# Altium footprint library SG__PCB_Unsorted.PcbLib: 113 footprints (part 3 of 8)
Each footprint in its own frame and in the unit in brackets; x right, y up, seen from the top. Pads: shape width x height; smd on the part's side, far side on the other; paste and mask are expansions set on the pad; w line width, h text height; cw(c..) or ccw(c..) is an arc to the next point about the centre after c.
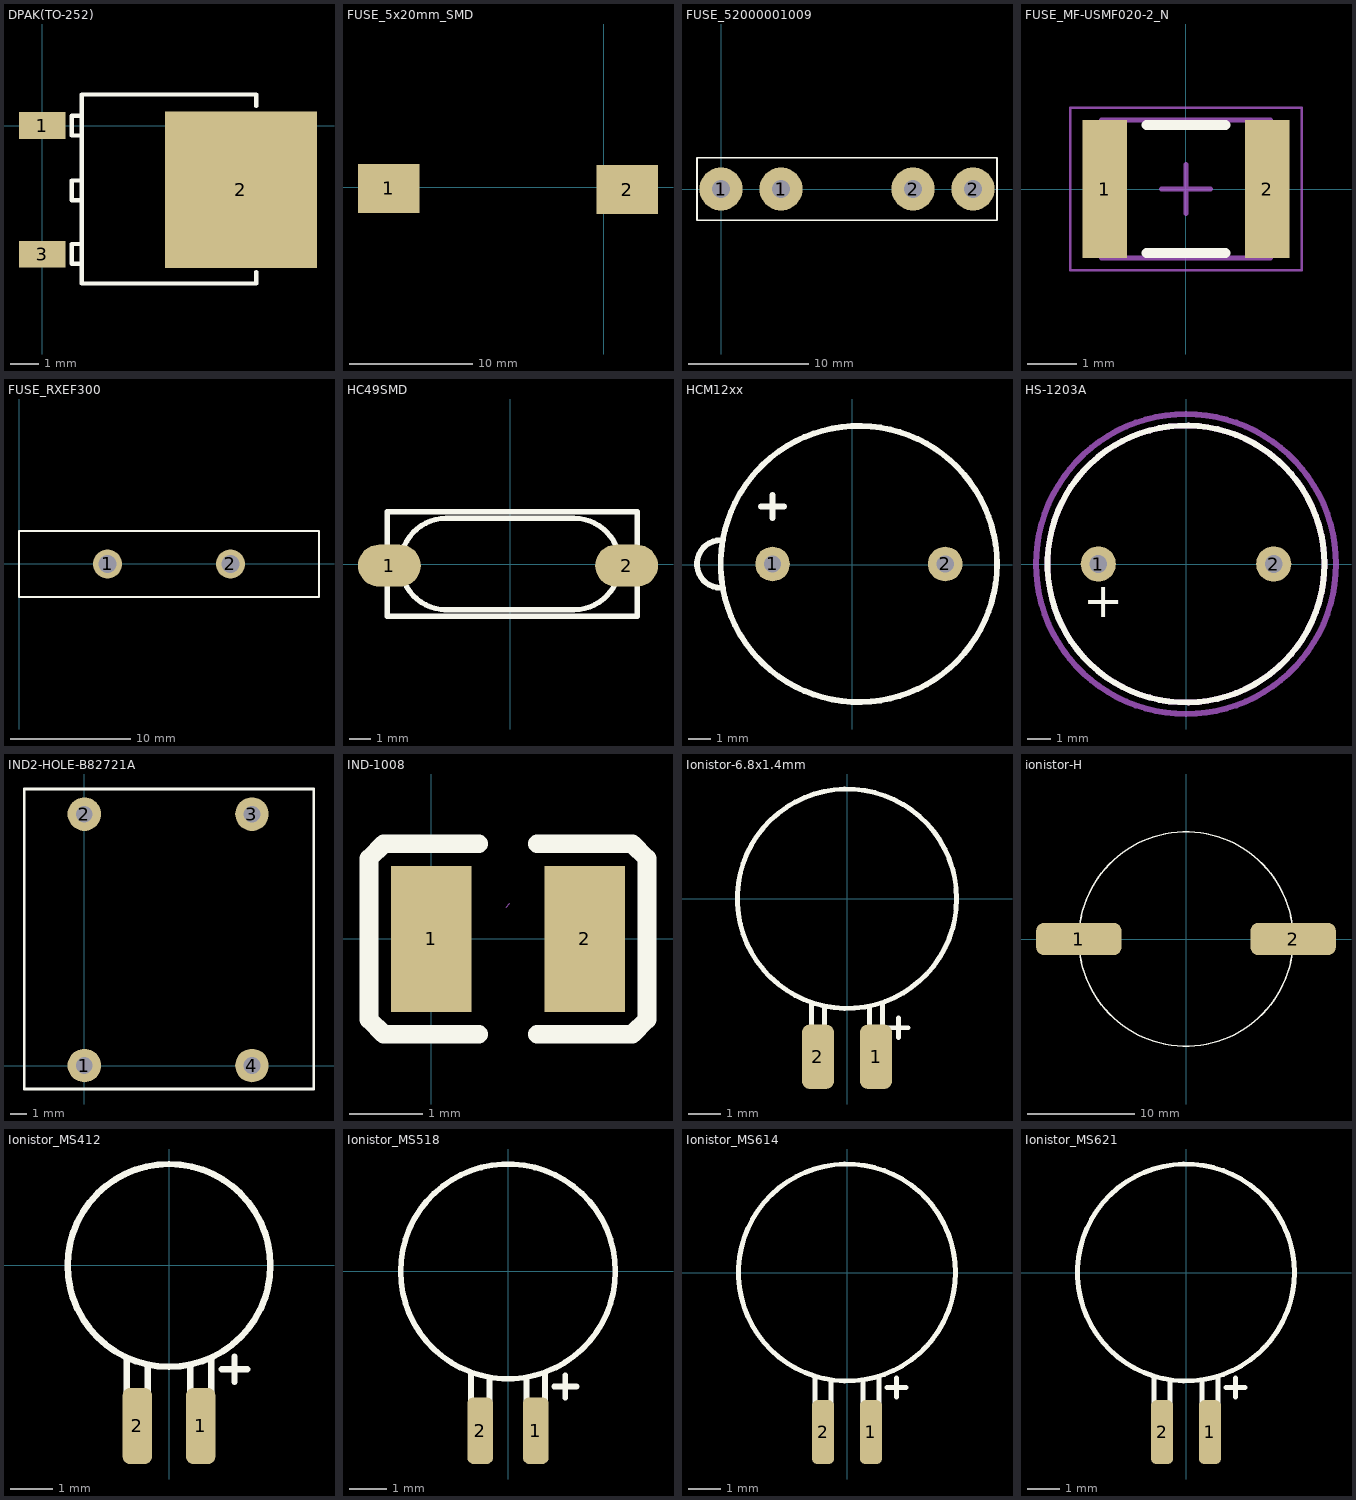
[diagram p2: the footprints below, top view; thin cyan lines are the x and y axes]

## DPAK(TO-252) [mm]
pads (3):
  rect 1.65x0.95 smd mask+0.05: 1(0,0) 3(0,-4.57)
  rect 5.4x5.55 smd mask+0.05: 2(7.05,-2.28)
Top Overlay:
  lines w0.15: 1.4,-4.9 1.05,-4.9 1.05,-4.2 1.4,-4.2 ; 1.4,-2.65 1.05,-2.65 1.05,-1.95 1.4,-1.95 ; 1.4,-0.35 1.05,-0.35 1.05,0.35 1.4,0.35 ; 7.6,-5.2 7.6,-5.6 1.4,-5.6 1.4,1.1 7.6,1.1 7.6,0.7
3D body "to-252.stp": height 2.3, standoff -0.01, extent -0.35,-5.55 9.35,1.03

## FUSE_5x20mm_SMD [mm]
pads (2):
  rect 5x4 smd: 1(-17.5,-0.1) 2(1.9,-0.2)
3D body "fuse_5_20mm.STEP": height 5, standoff 0, extent -17.9,-2.6 2.1,2.4

## FUSE_52000001009 [mm]
pads (4):
  round 3.6 hole 1.5 paste-2539.97 mask-0.05: 1(0,0) 1(5,0) 2(16,0) 2(21,0)
Top Overlay:
  lines w0.152: -2,-2.6 23,-2.6 23,2.6 -2,2.6 -2,-2.6
3D body: height 10, standoff 0, extent -2,-2.6 23,2.6

## FUSE_MF-USMF020-2_N [mm] "Chip Resistor, 2-Leads, Body 3,22x2,58mm, IPC Medium Density"
height 1.1
pads (2):
  rect 0.9x2.8 smd: 1(-1.65,0) 2(1.65,0)
Top Overlay:
  lines w0.2: -0.8,-1.3 0.8,-1.3 ; -0.8,1.3 0.8,1.3
Assembly Top:
  lines w0.1: -1.715,-1.4 1.715,-1.4 1.715,1.4 -1.715,1.4 -1.715,-1.4
Courtyard Top:
  lines w0.05: -2.35,-1.65 2.35,-1.65 2.35,1.65 -2.35,1.65 -2.35,-1.65
  lines w0.1: -0.5,0 0.5,0 ; 0,-0.5 0,0.5
3D body "RESC3226X11N.step": height 1.1, standoff 0, extent -1.715,-1.4 1.715,1.4

## FUSE_RXEF300 [mm]
pads (2):
  round 2.4 hole 1.5 paste-2539.97 mask-0.05: 1(7.35,0) 2(17.55,0)
Top Overlay:
  lines w0.152: 0,-2.751 0,2.749 24.9,2.749 24.9,-2.751 0,-2.751
3D body: height 37.6, standoff 0.5, extent 0,-2.751 24.9,2.749

## HC49SMD [mm]
pads (2):
  oval 3x2 smd: 1(-5.766,-0.076) 2(5.563,-0.076)
Top Overlay:
  lines w0.254: -3.124,-2.185 2.972,-2.185 ; -3.048,-2.185 cw(c-3.048,0) -3.048,2.185 3.048,2.185 cw(c3.048,0) 3.048,-2.185 ; -5.867,-2.489 -5.867,2.489 6.071,2.489 6.071,-2.489 -5.867,-2.489
3D body "User Library-Crystal HC49_US-SM.step": height 4.5, standoff 0.2, extent -6.374,-2.388 6.426,2.442

## HCM12xx [mil]
pads (2):
  round 60 hole 30: 1(-138.78,0.98) 2(161.22,0.98)
Top Overlay:
  circle w10: c11.22,0.98 r240
  lines w10: -228.78,-40.25 cw(c-228.78,0.98) -228.78,42.22 ; -158.78,100.98 -118.78,100.98 ; -138.78,80.98 -138.78,120.98
3D body "HCM1206X.step": height 452.76, standoff -177.17, extent -223.43,-231.31 249.01,241.13

## HS-1203A [mil] "Buzzer"
pads (2):
  round 60 hole 30: 1(-149.61,0) 2(149.61,0)
Top Overlay:
  circle w10: c0,0 r236.22
  text "+" at -175.04,-90.55 h60
Assembly Top:
  circle w10: c0,0 r236.22
Courtyard Top:
  circle w10: c0,0 r255.91
3D body "Buzzer_HS-1203A_7,6mm.SLDPRT": height 377.95, standoff -216.54, extent -236.22,-236.22 236.22,236.22

## IND2-HOLE-B82721A [mm]
pads (4):
  round 2 hole 1 paste-2539.97 mask-0.05: 1(0,0) 2(0,15) 3(10,15) 4(10,0)
Top Overlay:
  lines w0.152: -3.6,-1.4 -3.6,16.5 13.7,16.5 13.7,-1.4 -3.6,-1.4
3D body: height 12.6, standoff 0.5, extent -3.6,-1.4 13.7,16.5

## IND-1008 [mm]
height 1
pads (2):
  rect 1.1x2 smd: 1(0,0) 2(2.1,0)
Top Overlay:
  lines w0.254: 0.65,-1.3 -0.65,-1.3 -0.85,-1.1 -0.85,1.1 -0.65,1.3 0.65,1.3 ; 1.45,-1.3 2.75,-1.3 2.95,-1.1 2.95,1.1 2.75,1.3 1.45,1.3
Mechanical 15:
  lines w0.003: 1.025,0.436 1.075,0.487

## Ionistor-6.8x1.4mm [mm]
pads (2):
  rrect50% 1x2 smd mask+0.05: 1(0.9,-4.9) 2(-0.9,-4.9)
Top Overlay:
  circle w0.152: c0,0 r3.4
  lines w0.152: -1.1,-3.9 -1.1,-3.3 ; -0.7,-3.9 -0.7,-3.4 ; 0.7,-3.9 0.7,-3.4 ; 1.1,-3.9 1.1,-3.3 ; 1.3,-4 1.9,-4 ; 1.6,-4.3 1.6,-3.7
3D body "dms3r3224r.stp": height 2.8, standoff 0, extent -3.399,-5.4 3.399,3.6

## ionistor-H [mm]
height 6
pads (2):
  rrect50% 8x3 smd mask+0.05: 1(-10,0) 2(10,0)
Top Overlay:
  circle w0.152: c0,0 r10
3D body: height 6, standoff 0, extent -10,-10 10,10

## Ionistor_MS412 [mm] "1.0 mAh, 4.8x1.2 mm"
pads (2):
  rrect50% 0.7x1.8 smd mask+0.05: 1(0.75,-3.8) 2(-0.75,-3.8)
Top Overlay:
  circle w0.152: c0,0 r2.4
  lines w0.152: -1,-3 -1,-2.208 ; -0.5,-3 -0.5,-2.358 ; 0.5,-3 0.5,-2.35 ; 1,-3 1,-2.2 ; 1.25,-2.458 1.85,-2.458 ; 1.55,-2.758 1.55,-2.158
3D body: height 1.6, standoff 0, extent -2.4,-2.4 2.4,2.4

## Ionistor_MS518 [mm] "3.4 mAh, 5.8x1.8 mm"
pads (2):
  rrect50% 0.7x1.8 smd mask+0.05: 1(0.75,-4.3) 2(-0.75,-4.3)
Top Overlay:
  circle w0.152: c0,0 r2.9
  lines w0.152: -1,-3.5 -1,-2.758 ; -0.5,-3.5 -0.5,-2.908 ; 0.5,-3.5 0.5,-2.9 ; 1,-3.5 1,-2.75 ; 1.25,-3.108 1.85,-3.108 ; 1.55,-3.408 1.55,-2.808
3D body: height 2.1, standoff 0, extent -2.9,-2.897 2.9,2.897

## Ionistor_MS614 [mm] "3.4 mAh, 6.8x1.4 mm"
pads (2):
  rrect50% 0.7x2 smd mask+0.05: 1(0.75,-5) 2(-0.75,-5)
Top Overlay:
  circle w0.152: c0,0 r3.4
  lines w0.152: -1,-4.1 -1,-3.258 ; -0.5,-4.1 -0.5,-3.408 ; 0.5,-4.1 0.5,-3.4 ; 1,-4.1 1,-3.25 ; 1.25,-3.608 1.85,-3.608 ; 1.55,-3.908 1.55,-3.308
3D body: height 1.8, standoff 0, extent -3.4,-3.4 3.4,3.4

## Ionistor_MS621 [mm] "5.5 mAh, 6.8x2.1 mm"
pads (2):
  rrect50% 0.7x2 smd mask+0.05: 1(0.75,-5) 2(-0.75,-5)
Top Overlay:
  circle w0.152: c0,0 r3.4
  lines w0.152: -1,-4.1 -1,-3.258 ; -0.5,-4.1 -0.5,-3.408 ; 0.5,-4.1 0.5,-3.4 ; 1,-4.1 1,-3.25 ; 1.25,-3.608 1.85,-3.608 ; 1.55,-3.908 1.55,-3.308
3D body: height 2.7, standoff 0, extent -3.4,-3.4 3.4,3.4